# Altium footprint library con-omron.PCBLIB: 109 footprints (part 3 of 8)
Each footprint in its own frame and in the unit in brackets; x right, y up, seen from the top. Pads: shape width x height; smd on the part's side, far side on the other; paste and mask are expansions set on the pad; w line width, h text height; cw(c..) or ccw(c..) is an arc to the next point about the centre after c.
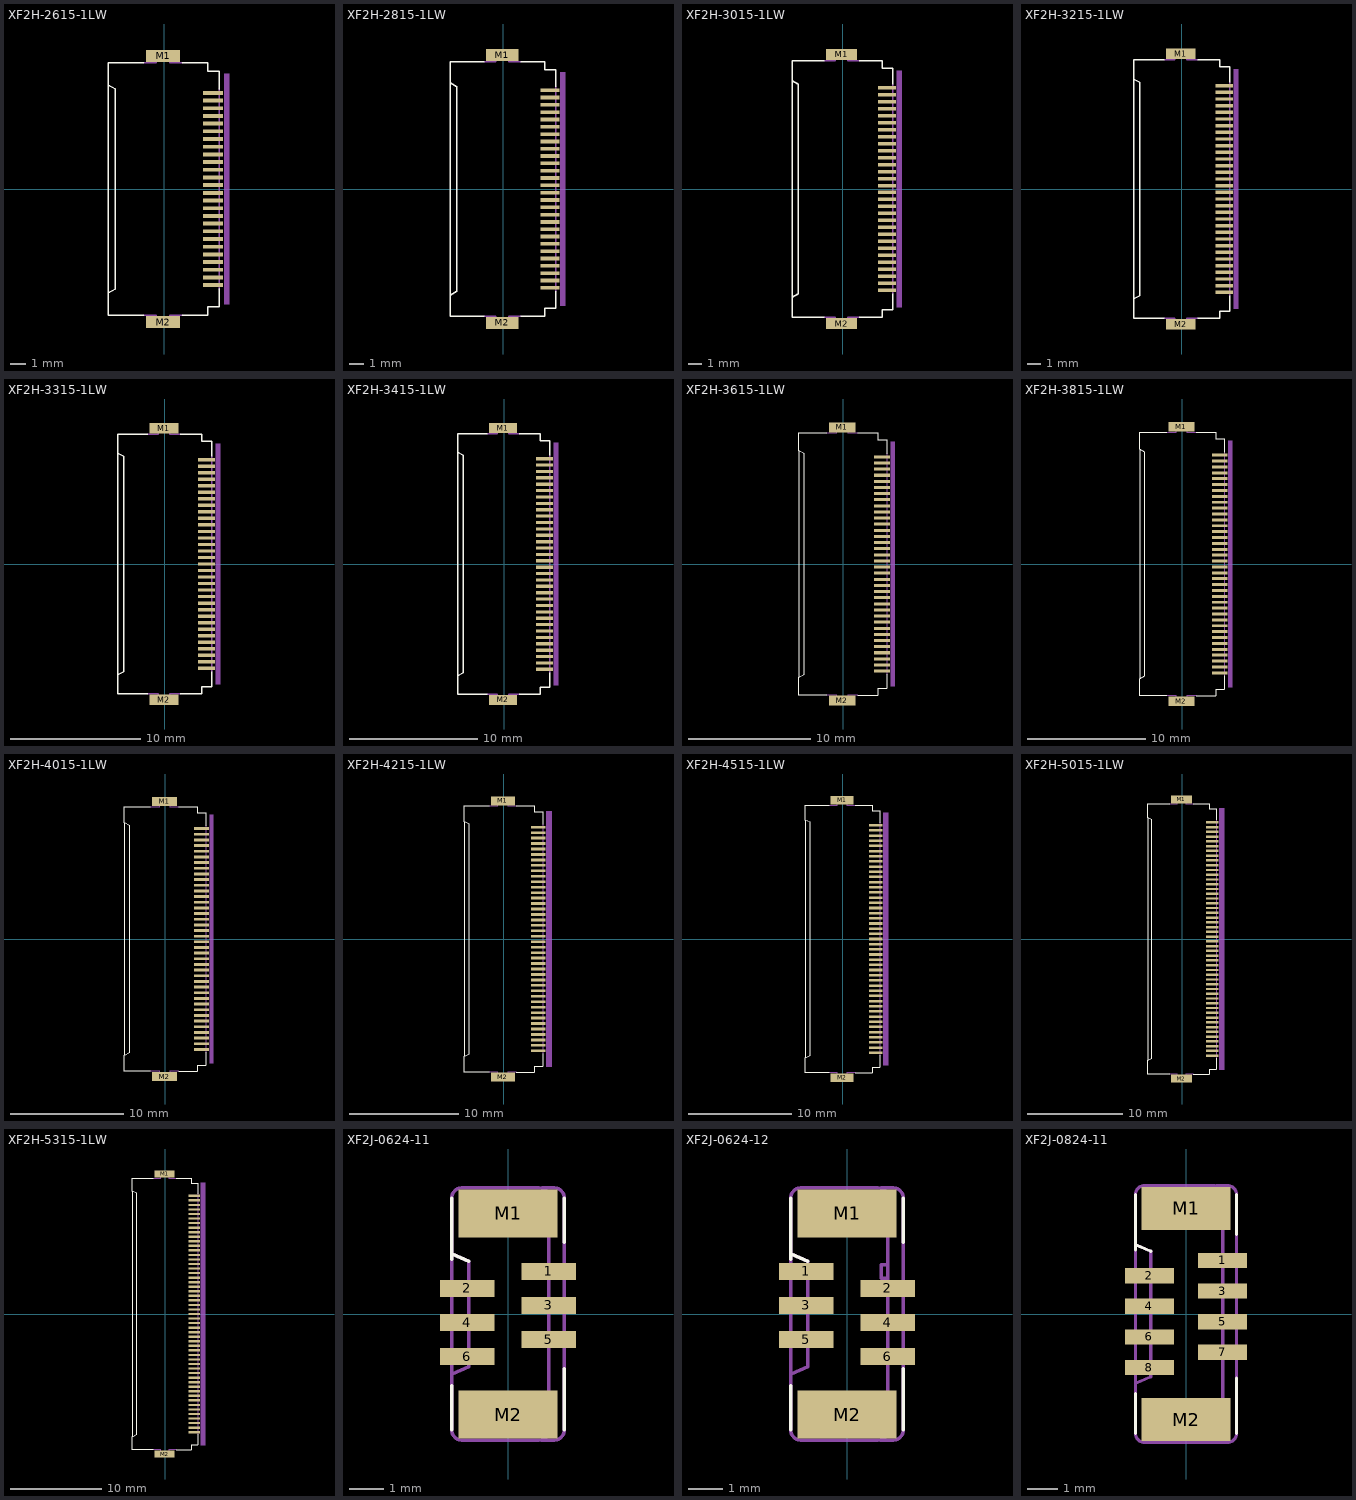
[diagram p2: the footprints below, top view; thin cyan lines are the x and y axes]

## XF2H-2615-1LW [mil]
pads (28):
  rect 51.18x9.84 smd: 1(125,246.06) 2(125,226.38) 3(125,206.69) 4(125,187.01) 5(125,167.32) 6(125,147.64) 7(125,127.95) 8(125,108.27) 9(125,88.58) 10(125,68.9) 11(125,49.21) 12(125,29.53) 13(125,9.84) 14(125,-9.84) 15(125,-29.53) 16(125,-49.21) 17(125,-68.9) 18(125,-88.58) 19(125,-108.27) 20(125,-127.95) 21(125,-147.64) 22(125,-167.32) 23(125,-187.01) 24(125,-206.69) 25(125,-226.38) 26(125,-246.06)
  rect 86.61x31.5 smd: M1(-2.95,340.55) M2(-2.95,-340.55)
Top Overlay:
  lines w4: -52.17,-322.83 -142.72,-322.83 -142.72,-265.75 ; -52.17,322.83 -142.72,322.83 -142.72,265.75 ; 46.26,-322.83 111.22,-322.83 111.22,-301.18 140.75,-301.18 140.75,-255.91 ; 46.26,322.83 111.22,322.83 111.22,301.18 140.75,301.18 140.75,255.91 ; -142.72,-265.75 -125,-255.91 -125,255.91 -142.72,265.75 ; -142.72,-265.75 -142.72,265.75
Top Solder:
  rectangle: 97.44,239.17 152.56,252.95
  rectangle: 97.44,219.49 152.56,233.27
  rectangle: 97.44,199.8 152.56,213.58
  rectangle: 97.44,180.12 152.56,193.9
  rectangle: 97.44,160.43 152.56,174.21
  rectangle: 97.44,140.75 152.56,154.53
  rectangle: 97.44,121.06 152.56,134.84
  rectangle: 97.44,101.38 152.56,115.16
  rectangle: 97.44,81.69 152.56,95.47
  rectangle: 97.44,62.01 152.56,75.79
  rectangle: 97.44,42.32 152.56,56.1
  rectangle: 97.44,22.64 152.56,36.42
  rectangle: 97.44,2.95 152.56,16.73
  rectangle: 97.44,-16.73 152.56,-2.95
  rectangle: 97.44,-36.42 152.56,-22.64
  rectangle: 97.44,-56.1 152.56,-42.32
  rectangle: 97.44,-75.79 152.56,-62.01
  rectangle: 97.44,-95.47 152.56,-81.69
  rectangle: 97.44,-115.16 152.56,-101.38
  rectangle: 97.44,-134.84 152.56,-121.06
  rectangle: 97.44,-154.53 152.56,-140.75
  rectangle: 97.44,-174.21 152.56,-160.43
  rectangle: 97.44,-193.9 152.56,-180.12
  rectangle: 97.44,-213.58 152.56,-199.8
  rectangle: 97.44,-233.27 152.56,-219.49
  rectangle: 97.44,-252.95 152.56,-239.17
Mechanical 16:
  lines w4: -52.17,-322.83 -20.67,-322.83 -20.67,-334.65 14.76,-334.65 14.76,-322.83 46.26,-322.83 ; -52.17,322.83 -20.67,322.83 -20.67,334.65 14.76,334.65 14.76,322.83 46.26,322.83 ; 140.75,-255.91 140.75,255.91
Via Holes:
  rectangle: 8.86,-255.91 97.44,255.91
Mechanical 27:
  rectangle: 152.56,-295.28 167.32,295.28

## XF2H-2815-1LW [mil]
pads (30):
  rect 51.18x9.84 smd: 1(125,265.75) 2(125,246.06) 3(125,226.38) 4(125,206.69) 5(125,187.01) 6(125,167.32) 7(125,147.64) 8(125,127.95) 9(125,108.27) 10(125,88.58) 11(125,68.9) 12(125,49.21) 13(125,29.53) 14(125,9.84) 15(125,-9.84) 16(125,-29.53) 17(125,-49.21) 18(125,-68.9) 19(125,-88.58) 20(125,-108.27) 21(125,-127.95) 22(125,-147.64) 23(125,-167.32) 24(125,-187.01) 25(125,-206.69) 26(125,-226.38) 27(125,-246.06) 28(125,-265.75)
  rect 86.61x31.5 smd: M1(-2.95,360.24) M2(-2.95,-360.24)
Top Overlay:
  lines w4: -52.17,-342.52 -142.72,-342.52 -142.72,-285.43 ; -52.17,342.52 -142.72,342.52 -142.72,285.43 ; 46.26,-342.52 111.22,-342.52 111.22,-320.87 140.75,-320.87 140.75,-275.59 ; 46.26,342.52 111.22,342.52 111.22,320.87 140.75,320.87 140.75,275.59 ; -142.72,-285.43 -125,-275.59 -125,275.59 -142.72,285.43 ; -142.72,-285.43 -142.72,285.43
Top Solder:
  rectangle: 97.44,258.86 152.56,272.64
  rectangle: 97.44,239.17 152.56,252.95
  rectangle: 97.44,219.49 152.56,233.27
  rectangle: 97.44,199.8 152.56,213.58
  rectangle: 97.44,180.12 152.56,193.9
  rectangle: 97.44,160.43 152.56,174.21
  rectangle: 97.44,140.75 152.56,154.53
  rectangle: 97.44,121.06 152.56,134.84
  rectangle: 97.44,101.38 152.56,115.16
  rectangle: 97.44,81.69 152.56,95.47
  rectangle: 97.44,62.01 152.56,75.79
  rectangle: 97.44,42.32 152.56,56.1
  rectangle: 97.44,22.64 152.56,36.42
  rectangle: 97.44,2.95 152.56,16.73
  rectangle: 97.44,-16.73 152.56,-2.95
  rectangle: 97.44,-36.42 152.56,-22.64
  rectangle: 97.44,-56.1 152.56,-42.32
  rectangle: 97.44,-75.79 152.56,-62.01
  rectangle: 97.44,-95.47 152.56,-81.69
  rectangle: 97.44,-115.16 152.56,-101.38
  rectangle: 97.44,-134.84 152.56,-121.06
  rectangle: 97.44,-154.53 152.56,-140.75
  rectangle: 97.44,-174.21 152.56,-160.43
  rectangle: 97.44,-193.9 152.56,-180.12
  rectangle: 97.44,-213.58 152.56,-199.8
  rectangle: 97.44,-233.27 152.56,-219.49
  rectangle: 97.44,-252.95 152.56,-239.17
  rectangle: 97.44,-272.64 152.56,-258.86
Mechanical 16:
  lines w4: -52.17,-342.52 -20.67,-342.52 -20.67,-354.33 14.76,-354.33 14.76,-342.52 46.26,-342.52 ; -52.17,342.52 -20.67,342.52 -20.67,354.33 14.76,354.33 14.76,342.52 46.26,342.52 ; 140.75,-275.59 140.75,275.59
Via Holes:
  rectangle: 8.86,-275.59 97.44,275.59
Mechanical 27:
  rectangle: 152.56,-314.96 167.32,314.96

## XF2H-3015-1LW [mil]
pads (32):
  rect 51.18x9.84 smd: 1(125,285.43) 2(125,265.75) 3(125,246.06) 4(125,226.38) 5(125,206.69) 6(125,187.01) 7(125,167.32) 8(125,147.64) 9(125,127.95) 10(125,108.27) 11(125,88.58) 12(125,68.9) 13(125,49.21) 14(125,29.53) 15(125,9.84) 16(125,-9.84) 17(125,-29.53) 18(125,-49.21) 19(125,-68.9) 20(125,-88.58) 21(125,-108.27) 22(125,-127.95) 23(125,-147.64) 24(125,-167.32) 25(125,-187.01) 26(125,-206.69) 27(125,-226.38) 28(125,-246.06) 29(125,-265.75) 30(125,-285.43)
  rect 86.61x31.5 smd: M1(-2.95,379.92) M2(-2.95,-379.92)
Top Overlay:
  lines w4: -52.17,-362.2 -142.72,-362.2 -142.72,-305.12 ; -52.17,362.2 -142.72,362.2 -142.72,305.12 ; 46.26,-362.2 111.22,-362.2 111.22,-340.55 140.75,-340.55 140.75,-295.28 ; 46.26,362.2 111.22,362.2 111.22,340.55 140.75,340.55 140.75,295.28 ; -142.72,-305.12 -125,-295.28 -125,295.28 -142.72,305.12 ; -142.72,-305.12 -142.72,305.12
Top Solder:
  rectangle: 97.44,278.54 152.56,292.32
  rectangle: 97.44,258.86 152.56,272.64
  rectangle: 97.44,239.17 152.56,252.95
  rectangle: 97.44,219.49 152.56,233.27
  rectangle: 97.44,199.8 152.56,213.58
  rectangle: 97.44,180.12 152.56,193.9
  rectangle: 97.44,160.43 152.56,174.21
  rectangle: 97.44,140.75 152.56,154.53
  rectangle: 97.44,121.06 152.56,134.84
  rectangle: 97.44,101.38 152.56,115.16
  rectangle: 97.44,81.69 152.56,95.47
  rectangle: 97.44,62.01 152.56,75.79
  rectangle: 97.44,42.32 152.56,56.1
  rectangle: 97.44,22.64 152.56,36.42
  rectangle: 97.44,2.95 152.56,16.73
  rectangle: 97.44,-16.73 152.56,-2.95
  rectangle: 97.44,-36.42 152.56,-22.64
  rectangle: 97.44,-56.1 152.56,-42.32
  rectangle: 97.44,-75.79 152.56,-62.01
  rectangle: 97.44,-95.47 152.56,-81.69
  rectangle: 97.44,-115.16 152.56,-101.38
  rectangle: 97.44,-134.84 152.56,-121.06
  rectangle: 97.44,-154.53 152.56,-140.75
  rectangle: 97.44,-174.21 152.56,-160.43
  rectangle: 97.44,-193.9 152.56,-180.12
  rectangle: 97.44,-213.58 152.56,-199.8
  rectangle: 97.44,-233.27 152.56,-219.49
  rectangle: 97.44,-252.95 152.56,-239.17
  rectangle: 97.44,-272.64 152.56,-258.86
  rectangle: 97.44,-292.32 152.56,-278.54
Mechanical 16:
  lines w4: -52.17,-362.2 -20.67,-362.2 -20.67,-374.02 14.76,-374.02 14.76,-362.2 46.26,-362.2 ; -52.17,362.2 -20.67,362.2 -20.67,374.02 14.76,374.02 14.76,362.2 46.26,362.2 ; 140.75,-295.28 140.75,295.28
Via Holes:
  rectangle: 8.86,-295.28 97.44,295.28
Mechanical 27:
  rectangle: 152.56,-334.65 167.32,334.65

## XF2H-3215-1LW [mil]
pads (34):
  rect 51.18x9.84 smd: 1(125,305.12) 2(125,285.43) 3(125,265.75) 4(125,246.06) 5(125,226.38) 6(125,206.69) 7(125,187.01) 8(125,167.32) 9(125,147.64) 10(125,127.95) 11(125,108.27) 12(125,88.58) 13(125,68.9) 14(125,49.21) 15(125,29.53) 16(125,9.84) 17(125,-9.84) 18(125,-29.53) 19(125,-49.21) 20(125,-68.9) 21(125,-88.58) 22(125,-108.27) 23(125,-127.95) 24(125,-147.64) 25(125,-167.32) 26(125,-187.01) 27(125,-206.69) 28(125,-226.38) 29(125,-246.06) 30(125,-265.75) 31(125,-285.43) 32(125,-305.12)
  rect 86.61x31.5 smd: M1(-2.95,399.61) M2(-2.95,-399.61)
Top Overlay:
  lines w4: -52.17,-381.89 -142.72,-381.89 -142.72,-324.8 ; -52.17,381.89 -142.72,381.89 -142.72,324.8 ; 46.26,-381.89 111.22,-381.89 111.22,-360.24 140.75,-360.24 140.75,-314.96 ; 46.26,381.89 111.22,381.89 111.22,360.24 140.75,360.24 140.75,314.96 ; -142.72,-324.8 -125,-314.96 -125,314.96 -142.72,324.8 ; -142.72,-324.8 -142.72,324.8
Top Solder:
  rectangle: 97.44,298.23 152.56,312.01
  rectangle: 97.44,278.54 152.56,292.32
  rectangle: 97.44,258.86 152.56,272.64
  rectangle: 97.44,239.17 152.56,252.95
  rectangle: 97.44,219.49 152.56,233.27
  rectangle: 97.44,199.8 152.56,213.58
  rectangle: 97.44,180.12 152.56,193.9
  rectangle: 97.44,160.43 152.56,174.21
  rectangle: 97.44,140.75 152.56,154.53
  rectangle: 97.44,121.06 152.56,134.84
  rectangle: 97.44,101.38 152.56,115.16
  rectangle: 97.44,81.69 152.56,95.47
  rectangle: 97.44,62.01 152.56,75.79
  rectangle: 97.44,42.32 152.56,56.1
  rectangle: 97.44,22.64 152.56,36.42
  rectangle: 97.44,2.95 152.56,16.73
  rectangle: 97.44,-16.73 152.56,-2.95
  rectangle: 97.44,-36.42 152.56,-22.64
  rectangle: 97.44,-56.1 152.56,-42.32
  rectangle: 97.44,-75.79 152.56,-62.01
  rectangle: 97.44,-95.47 152.56,-81.69
  rectangle: 97.44,-115.16 152.56,-101.38
  rectangle: 97.44,-134.84 152.56,-121.06
  rectangle: 97.44,-154.53 152.56,-140.75
  rectangle: 97.44,-174.21 152.56,-160.43
  rectangle: 97.44,-193.9 152.56,-180.12
  rectangle: 97.44,-213.58 152.56,-199.8
  rectangle: 97.44,-233.27 152.56,-219.49
  rectangle: 97.44,-252.95 152.56,-239.17
  rectangle: 97.44,-272.64 152.56,-258.86
  rectangle: 97.44,-292.32 152.56,-278.54
  rectangle: 97.44,-312.01 152.56,-298.23
Mechanical 16:
  lines w4: -52.17,-381.89 -20.67,-381.89 -20.67,-393.7 14.76,-393.7 14.76,-381.89 46.26,-381.89 ; -52.17,381.89 -20.67,381.89 -20.67,393.7 14.76,393.7 14.76,381.89 46.26,381.89 ; 140.75,-314.96 140.75,314.96
Via Holes:
  rectangle: 8.86,-314.96 97.44,314.96
Mechanical 27:
  rectangle: 152.56,-354.33 167.32,354.33

## XF2H-3315-1LW [mm]
pads (35):
  rect 1.3x0.25 smd: 1(3.175,8) 2(3.175,7.5) 3(3.175,7) 4(3.175,6.5) 5(3.175,6) 6(3.175,5.5) 7(3.175,5) 8(3.175,4.5) 9(3.175,4) 10(3.175,3.5) 11(3.175,3) 12(3.175,2.5) 13(3.175,2) 14(3.175,1.5) 15(3.175,1) 16(3.175,0.5) 17(3.175,0) 18(3.175,-0.5) 19(3.175,-1) 20(3.175,-1.5) 21(3.175,-2) 22(3.175,-2.5) 23(3.175,-3) 24(3.175,-3.5) 25(3.175,-4) 26(3.175,-4.5) 27(3.175,-5) 28(3.175,-5.5) 29(3.175,-6) 30(3.175,-6.5) 31(3.175,-7) 32(3.175,-7.5) 33(3.175,-8)
  rect 2.2x0.8 smd: M1(-0.075,10.4) M2(-0.075,-10.4)
Top Overlay:
  lines w0.102: -1.325,-9.95 -3.625,-9.95 -3.625,-8.5 ; -1.325,9.95 -3.625,9.95 -3.625,8.5 ; 1.175,-9.95 2.825,-9.95 2.825,-9.4 3.575,-9.4 3.575,-8.25 ; 1.175,9.95 2.825,9.95 2.825,9.4 3.575,9.4 3.575,8.25 ; -3.625,-8.5 -3.175,-8.25 -3.175,8.25 -3.625,8.5 ; -3.625,-8.5 -3.625,8.5
Top Solder:
  rectangle: 2.475,7.825 3.875,8.175
  rectangle: 2.475,7.325 3.875,7.675
  rectangle: 2.475,6.825 3.875,7.175
  rectangle: 2.475,6.325 3.875,6.675
  rectangle: 2.475,5.825 3.875,6.175
  rectangle: 2.475,5.325 3.875,5.675
  rectangle: 2.475,4.825 3.875,5.175
  rectangle: 2.475,4.325 3.875,4.675
  rectangle: 2.475,3.825 3.875,4.175
  rectangle: 2.475,3.325 3.875,3.675
  rectangle: 2.475,2.825 3.875,3.175
  rectangle: 2.475,2.325 3.875,2.675
  rectangle: 2.475,1.825 3.875,2.175
  rectangle: 2.475,1.325 3.875,1.675
  rectangle: 2.475,0.825 3.875,1.175
  rectangle: 2.475,0.325 3.875,0.675
  rectangle: 2.475,-0.175 3.875,0.175
  rectangle: 2.475,-0.675 3.875,-0.325
  rectangle: 2.475,-1.175 3.875,-0.825
  rectangle: 2.475,-1.675 3.875,-1.325
  rectangle: 2.475,-2.175 3.875,-1.825
  rectangle: 2.475,-2.675 3.875,-2.325
  rectangle: 2.475,-3.175 3.875,-2.825
  rectangle: 2.475,-3.675 3.875,-3.325
  rectangle: 2.475,-4.175 3.875,-3.825
  rectangle: 2.475,-4.675 3.875,-4.325
  rectangle: 2.475,-5.175 3.875,-4.825
  rectangle: 2.475,-5.675 3.875,-5.325
  rectangle: 2.475,-6.175 3.875,-5.825
  rectangle: 2.475,-6.675 3.875,-6.325
  rectangle: 2.475,-7.175 3.875,-6.825
  rectangle: 2.475,-7.675 3.875,-7.325
  rectangle: 2.475,-8.175 3.875,-7.825
Mechanical 16:
  lines w0.102: -1.325,-9.95 -0.525,-9.95 -0.525,-10.25 0.375,-10.25 0.375,-9.95 1.175,-9.95 ; -1.325,9.95 -0.525,9.95 -0.525,10.25 0.375,10.25 0.375,9.95 1.175,9.95 ; 3.575,-8.25 3.575,8.25
Via Holes:
  rectangle: 0.225,-8.25 2.475,8.25
Mechanical 27:
  rectangle: 3.875,-9.25 4.25,9.25

## XF2H-3415-1LW [mil]
pads (36):
  rect 51.18x9.84 smd: 1(125,324.8) 2(125,305.12) 3(125,285.43) 4(125,265.75) 5(125,246.06) 6(125,226.38) 7(125,206.69) 8(125,187.01) 9(125,167.32) 10(125,147.64) 11(125,127.95) 12(125,108.27) 13(125,88.58) 14(125,68.9) 15(125,49.21) 16(125,29.53) 17(125,9.84) 18(125,-9.84) 19(125,-29.53) 20(125,-49.21) 21(125,-68.9) 22(125,-88.58) 23(125,-108.27) 24(125,-127.95) 25(125,-147.64) 26(125,-167.32) 27(125,-187.01) 28(125,-206.69) 29(125,-226.38) 30(125,-246.06) 31(125,-265.75) 32(125,-285.43) 33(125,-305.12) 34(125,-324.8)
  rect 86.61x31.5 smd: M1(-2.95,419.29) M2(-2.95,-419.29)
Top Overlay:
  lines w4: -52.17,-401.57 -142.72,-401.57 -142.72,-344.49 ; -52.17,401.57 -142.72,401.57 -142.72,344.49 ; 46.26,-401.57 111.22,-401.57 111.22,-379.92 140.75,-379.92 140.75,-334.65 ; 46.26,401.57 111.22,401.57 111.22,379.92 140.75,379.92 140.75,334.65 ; -142.72,-344.49 -125,-334.65 -125,334.65 -142.72,344.49 ; -142.72,-344.49 -142.72,344.49
Top Solder:
  rectangle: 97.44,317.91 152.56,331.69
  rectangle: 97.44,298.23 152.56,312.01
  rectangle: 97.44,278.54 152.56,292.32
  rectangle: 97.44,258.86 152.56,272.64
  rectangle: 97.44,239.17 152.56,252.95
  rectangle: 97.44,219.49 152.56,233.27
  rectangle: 97.44,199.8 152.56,213.58
  rectangle: 97.44,180.12 152.56,193.9
  rectangle: 97.44,160.43 152.56,174.21
  rectangle: 97.44,140.75 152.56,154.53
  rectangle: 97.44,121.06 152.56,134.84
  rectangle: 97.44,101.38 152.56,115.16
  rectangle: 97.44,81.69 152.56,95.47
  rectangle: 97.44,62.01 152.56,75.79
  rectangle: 97.44,42.32 152.56,56.1
  rectangle: 97.44,22.64 152.56,36.42
  rectangle: 97.44,2.95 152.56,16.73
  rectangle: 97.44,-16.73 152.56,-2.95
  rectangle: 97.44,-36.42 152.56,-22.64
  rectangle: 97.44,-56.1 152.56,-42.32
  rectangle: 97.44,-75.79 152.56,-62.01
  rectangle: 97.44,-95.47 152.56,-81.69
  rectangle: 97.44,-115.16 152.56,-101.38
  rectangle: 97.44,-134.84 152.56,-121.06
  rectangle: 97.44,-154.53 152.56,-140.75
  rectangle: 97.44,-174.21 152.56,-160.43
  rectangle: 97.44,-193.9 152.56,-180.12
  rectangle: 97.44,-213.58 152.56,-199.8
  rectangle: 97.44,-233.27 152.56,-219.49
  rectangle: 97.44,-252.95 152.56,-239.17
  rectangle: 97.44,-272.64 152.56,-258.86
  rectangle: 97.44,-292.32 152.56,-278.54
  rectangle: 97.44,-312.01 152.56,-298.23
  rectangle: 97.44,-331.69 152.56,-317.91
Mechanical 16:
  lines w4: -52.17,-401.57 -20.67,-401.57 -20.67,-413.39 14.76,-413.39 14.76,-401.57 46.26,-401.57 ; -52.17,401.57 -20.67,401.57 -20.67,413.39 14.76,413.39 14.76,401.57 46.26,401.57 ; 140.75,-334.65 140.75,334.65
Via Holes:
  rectangle: 8.86,-334.65 97.44,334.65
Mechanical 27:
  rectangle: 152.56,-374.02 167.32,374.02

## XF2H-3615-1LW [mil]
pads (38):
  rect 51.18x9.84 smd: 1(125,344.49) 2(125,324.8) 3(125,305.12) 4(125,285.43) 5(125,265.75) 6(125,246.06) 7(125,226.38) 8(125,206.69) 9(125,187.01) 10(125,167.32) 11(125,147.64) 12(125,127.95) 13(125,108.27) 14(125,88.58) 15(125,68.9) 16(125,49.21) 17(125,29.53) 18(125,9.84) 19(125,-9.84) 20(125,-29.53) 21(125,-49.21) 22(125,-68.9) 23(125,-88.58) 24(125,-108.27) 25(125,-127.95) 26(125,-147.64) 27(125,-167.32) 28(125,-187.01) 29(125,-206.69) 30(125,-226.38) 31(125,-246.06) 32(125,-265.75) 33(125,-285.43) 34(125,-305.12) 35(125,-324.8) 36(125,-344.49)
  rect 86.61x31.5 smd: M1(-2.95,438.98) M2(-2.95,-438.98)
Top Overlay:
  lines w4: -52.17,-421.26 -142.72,-421.26 -142.72,-364.17 ; -52.17,421.26 -142.72,421.26 -142.72,364.17 ; 46.26,-421.26 111.22,-421.26 111.22,-399.61 140.75,-399.61 140.75,-354.33 ; 46.26,421.26 111.22,421.26 111.22,399.61 140.75,399.61 140.75,354.33 ; -142.72,-364.17 -125,-354.33 -125,354.33 -142.72,364.17 ; -142.72,-364.17 -142.72,364.17
Top Solder:
  rectangle: 97.44,337.6 152.56,351.38
  rectangle: 97.44,317.91 152.56,331.69
  rectangle: 97.44,298.23 152.56,312.01
  rectangle: 97.44,278.54 152.56,292.32
  rectangle: 97.44,258.86 152.56,272.64
  rectangle: 97.44,239.17 152.56,252.95
  rectangle: 97.44,219.49 152.56,233.27
  rectangle: 97.44,199.8 152.56,213.58
  rectangle: 97.44,180.12 152.56,193.9
  rectangle: 97.44,160.43 152.56,174.21
  rectangle: 97.44,140.75 152.56,154.53
  rectangle: 97.44,121.06 152.56,134.84
  rectangle: 97.44,101.38 152.56,115.16
  rectangle: 97.44,81.69 152.56,95.47
  rectangle: 97.44,62.01 152.56,75.79
  rectangle: 97.44,42.32 152.56,56.1
  rectangle: 97.44,22.64 152.56,36.42
  rectangle: 97.44,2.95 152.56,16.73
  rectangle: 97.44,-16.73 152.56,-2.95
  rectangle: 97.44,-36.42 152.56,-22.64
  rectangle: 97.44,-56.1 152.56,-42.32
  rectangle: 97.44,-75.79 152.56,-62.01
  rectangle: 97.44,-95.47 152.56,-81.69
  rectangle: 97.44,-115.16 152.56,-101.38
  rectangle: 97.44,-134.84 152.56,-121.06
  rectangle: 97.44,-154.53 152.56,-140.75
  rectangle: 97.44,-174.21 152.56,-160.43
  rectangle: 97.44,-193.9 152.56,-180.12
  rectangle: 97.44,-213.58 152.56,-199.8
  rectangle: 97.44,-233.27 152.56,-219.49
  rectangle: 97.44,-252.95 152.56,-239.17
  rectangle: 97.44,-272.64 152.56,-258.86
  rectangle: 97.44,-292.32 152.56,-278.54
  rectangle: 97.44,-312.01 152.56,-298.23
  rectangle: 97.44,-331.69 152.56,-317.91
  rectangle: 97.44,-351.38 152.56,-337.6
Mechanical 16:
  lines w4: -52.17,-421.26 -20.67,-421.26 -20.67,-433.07 14.76,-433.07 14.76,-421.26 46.26,-421.26 ; -52.17,421.26 -20.67,421.26 -20.67,433.07 14.76,433.07 14.76,421.26 46.26,421.26 ; 140.75,-354.33 140.75,354.33
Via Holes:
  rectangle: 8.86,-354.33 97.44,354.33
Mechanical 27:
  rectangle: 152.56,-393.7 167.32,393.7

## XF2H-3815-1LW [mil]
pads (40):
  rect 51.18x9.84 smd: 1(125,364.17) 2(125,344.49) 3(125,324.8) 4(125,305.12) 5(125,285.43) 6(125,265.75) 7(125,246.06) 8(125,226.38) 9(125,206.69) 10(125,187.01) 11(125,167.32) 12(125,147.64) 13(125,127.95) 14(125,108.27) 15(125,88.58) 16(125,68.9) 17(125,49.21) 18(125,29.53) 19(125,9.84) 20(125,-9.84) 21(125,-29.53) 22(125,-49.21) 23(125,-68.9) 24(125,-88.58) 25(125,-108.27) 26(125,-127.95) 27(125,-147.64) 28(125,-167.32) 29(125,-187.01) 30(125,-206.69) 31(125,-226.38) 32(125,-246.06) 33(125,-265.75) 34(125,-285.43) 35(125,-305.12) 36(125,-324.8) 37(125,-344.49) 38(125,-364.17)
  rect 86.61x31.5 smd: M1(-2.95,458.66) M2(-2.95,-458.66)
Top Overlay:
  lines w4: -52.17,-440.94 -142.72,-440.94 -142.72,-383.86 ; -52.17,440.94 -142.72,440.94 -142.72,383.86 ; 46.26,-440.94 111.22,-440.94 111.22,-419.29 140.75,-419.29 140.75,-374.02 ; 46.26,440.94 111.22,440.94 111.22,419.29 140.75,419.29 140.75,374.02 ; -142.72,-383.86 -125,-374.02 -125,374.02 -142.72,383.86 ; -142.72,-383.86 -142.72,383.86
Top Solder:
  rectangle: 97.44,357.28 152.56,371.06
  rectangle: 97.44,337.6 152.56,351.38
  rectangle: 97.44,317.91 152.56,331.69
  rectangle: 97.44,298.23 152.56,312.01
  rectangle: 97.44,278.54 152.56,292.32
  rectangle: 97.44,258.86 152.56,272.64
  rectangle: 97.44,239.17 152.56,252.95
  rectangle: 97.44,219.49 152.56,233.27
  rectangle: 97.44,199.8 152.56,213.58
  rectangle: 97.44,180.12 152.56,193.9
  rectangle: 97.44,160.43 152.56,174.21
  rectangle: 97.44,140.75 152.56,154.53
  rectangle: 97.44,121.06 152.56,134.84
  rectangle: 97.44,101.38 152.56,115.16
  rectangle: 97.44,81.69 152.56,95.47
  rectangle: 97.44,62.01 152.56,75.79
  rectangle: 97.44,42.32 152.56,56.1
  rectangle: 97.44,22.64 152.56,36.42
  rectangle: 97.44,2.95 152.56,16.73
  rectangle: 97.44,-16.73 152.56,-2.95
  rectangle: 97.44,-36.42 152.56,-22.64
  rectangle: 97.44,-56.1 152.56,-42.32
  rectangle: 97.44,-75.79 152.56,-62.01
  rectangle: 97.44,-95.47 152.56,-81.69
  rectangle: 97.44,-115.16 152.56,-101.38
  rectangle: 97.44,-134.84 152.56,-121.06
  rectangle: 97.44,-154.53 152.56,-140.75
  rectangle: 97.44,-174.21 152.56,-160.43
  rectangle: 97.44,-193.9 152.56,-180.12
  rectangle: 97.44,-213.58 152.56,-199.8
  rectangle: 97.44,-233.27 152.56,-219.49
  rectangle: 97.44,-252.95 152.56,-239.17
  rectangle: 97.44,-272.64 152.56,-258.86
  rectangle: 97.44,-292.32 152.56,-278.54
  rectangle: 97.44,-312.01 152.56,-298.23
  rectangle: 97.44,-331.69 152.56,-317.91
  rectangle: 97.44,-351.38 152.56,-337.6
  rectangle: 97.44,-371.06 152.56,-357.28
Mechanical 16:
  lines w4: -52.17,-440.94 -20.67,-440.94 -20.67,-452.76 14.76,-452.76 14.76,-440.94 46.26,-440.94 ; -52.17,440.94 -20.67,440.94 -20.67,452.76 14.76,452.76 14.76,440.94 46.26,440.94 ; 140.75,-374.02 140.75,374.02
Via Holes:
  rectangle: 8.86,-374.02 97.44,374.02
Mechanical 27:
  rectangle: 152.56,-413.39 167.32,413.39

## XF2H-4015-1LW [mil]
pads (42):
  rect 51.18x9.84 smd: 1(125,383.86) 2(125,364.17) 3(125,344.49) 4(125,324.8) 5(125,305.12) 6(125,285.43) 7(125,265.75) 8(125,246.06) 9(125,226.38) 10(125,206.69) 11(125,187.01) 12(125,167.32) 13(125,147.64) 14(125,127.95) 15(125,108.27) 16(125,88.58) 17(125,68.9) 18(125,49.21) 19(125,29.53) 20(125,9.84) 21(125,-9.84) 22(125,-29.53) 23(125,-49.21) 24(125,-68.9) 25(125,-88.58) 26(125,-108.27) 27(125,-127.95) 28(125,-147.64) 29(125,-167.32) 30(125,-187.01) 31(125,-206.69) 32(125,-226.38) 33(125,-246.06) 34(125,-265.75) 35(125,-285.43) 36(125,-305.12) 37(125,-324.8) 38(125,-344.49) 39(125,-364.17) 40(125,-383.86)
  rect 86.61x31.5 smd: M1(-2.95,478.35) M2(-2.95,-478.35)
Top Overlay:
  lines w4: -52.17,-460.63 -142.72,-460.63 -142.72,-403.54 ; -52.17,460.63 -142.72,460.63 -142.72,403.54 ; 46.26,-460.63 111.22,-460.63 111.22,-438.98 140.75,-438.98 140.75,-393.7 ; 46.26,460.63 111.22,460.63 111.22,438.98 140.75,438.98 140.75,393.7 ; -142.72,-403.54 -125,-393.7 -125,393.7 -142.72,403.54 ; -142.72,-403.54 -142.72,403.54
Top Solder:
  rectangle: 97.44,376.97 152.56,390.75
  rectangle: 97.44,357.28 152.56,371.06
  rectangle: 97.44,337.6 152.56,351.38
  rectangle: 97.44,317.91 152.56,331.69
  rectangle: 97.44,298.23 152.56,312.01
  rectangle: 97.44,278.54 152.56,292.32
  rectangle: 97.44,258.86 152.56,272.64
  rectangle: 97.44,239.17 152.56,252.95
  rectangle: 97.44,219.49 152.56,233.27
  rectangle: 97.44,199.8 152.56,213.58
  rectangle: 97.44,180.12 152.56,193.9
  rectangle: 97.44,160.43 152.56,174.21
  rectangle: 97.44,140.75 152.56,154.53
  rectangle: 97.44,121.06 152.56,134.84
  rectangle: 97.44,101.38 152.56,115.16
  rectangle: 97.44,81.69 152.56,95.47
  rectangle: 97.44,62.01 152.56,75.79
  rectangle: 97.44,42.32 152.56,56.1
  rectangle: 97.44,22.64 152.56,36.42
  rectangle: 97.44,2.95 152.56,16.73
  rectangle: 97.44,-16.73 152.56,-2.95
  rectangle: 97.44,-36.42 152.56,-22.64
  rectangle: 97.44,-56.1 152.56,-42.32
  rectangle: 97.44,-75.79 152.56,-62.01
  rectangle: 97.44,-95.47 152.56,-81.69
  rectangle: 97.44,-115.16 152.56,-101.38
  rectangle: 97.44,-134.84 152.56,-121.06
  rectangle: 97.44,-154.53 152.56,-140.75
  rectangle: 97.44,-174.21 152.56,-160.43
  rectangle: 97.44,-193.9 152.56,-180.12
  rectangle: 97.44,-213.58 152.56,-199.8
  rectangle: 97.44,-233.27 152.56,-219.49
  rectangle: 97.44,-252.95 152.56,-239.17
  rectangle: 97.44,-272.64 152.56,-258.86
  rectangle: 97.44,-292.32 152.56,-278.54
  rectangle: 97.44,-312.01 152.56,-298.23
  rectangle: 97.44,-331.69 152.56,-317.91
  rectangle: 97.44,-351.38 152.56,-337.6
  rectangle: 97.44,-371.06 152.56,-357.28
  rectangle: 97.44,-390.75 152.56,-376.97
Mechanical 16:
  lines w4: -52.17,-460.63 -20.67,-460.63 -20.67,-472.44 14.76,-472.44 14.76,-460.63 46.26,-460.63 ; -52.17,460.63 -20.67,460.63 -20.67,472.44 14.76,472.44 14.76,460.63 46.26,460.63 ; 140.75,-393.7 140.75,393.7
Via Holes:
  rectangle: 8.86,-393.7 97.44,393.7
Mechanical 27:
  rectangle: 152.56,-433.07 167.32,433.07

## XF2H-4215-1LW [mil]
pads (44):
  rect 51.18x9.84 smd: 1(125,403.54) 2(125,383.86) 3(125,364.17) 4(125,344.49) 5(125,324.8) 6(125,305.12) 7(125,285.43) 8(125,265.75) 9(125,246.06) 10(125,226.38) 11(125,206.69) 12(125,187.01) 13(125,167.32) 14(125,147.64) 15(125,127.95) 16(125,108.27) 17(125,88.58) 18(125,68.9) 19(125,49.21) 20(125,29.53) 21(125,9.84) 22(125,-9.84) 23(125,-29.53) 24(125,-49.21) 25(125,-68.9) 26(125,-88.58) 27(125,-108.27) 28(125,-127.95) 29(125,-147.64) 30(125,-167.32) 31(125,-187.01) 32(125,-206.69) 33(125,-226.38) 34(125,-246.06) 35(125,-265.75) 36(125,-285.43) 37(125,-305.12) 38(125,-324.8) 39(125,-344.49) 40(125,-364.17) 41(125,-383.86) 42(125,-403.54)
  rect 86.61x31.5 smd: M1(-2.95,498.03) M2(-2.95,-498.03)
Top Overlay:
  lines w4: -52.17,-480.32 -142.72,-480.32 -142.72,-423.23 ; -52.17,480.32 -142.72,480.32 -142.72,423.23 ; 46.26,-480.32 111.22,-480.32 111.22,-458.66 140.75,-458.66 140.75,-413.39 ; 46.26,480.32 111.22,480.32 111.22,458.66 140.75,458.66 140.75,413.39 ; -142.72,-423.23 -125,-413.39 -125,414.37 -142.72,423.23 ; -142.72,-423.23 -142.72,423.23
Top Solder:
  rectangle: 97.44,396.65 152.56,410.43
  rectangle: 97.44,376.97 152.56,390.75
  rectangle: 97.44,357.28 152.56,371.06
  rectangle: 97.44,337.6 152.56,351.38
  rectangle: 97.44,317.91 152.56,331.69
  rectangle: 97.44,298.23 152.56,312.01
  rectangle: 97.44,278.54 152.56,292.32
  rectangle: 97.44,258.86 152.56,272.64
  rectangle: 97.44,239.17 152.56,252.95
  rectangle: 97.44,219.49 152.56,233.27
  rectangle: 97.44,199.8 152.56,213.58
  rectangle: 97.44,180.12 152.56,193.9
  rectangle: 97.44,160.43 152.56,174.21
  rectangle: 97.44,140.75 152.56,154.53
  rectangle: 97.44,121.06 152.56,134.84
  rectangle: 97.44,101.38 152.56,115.16
  rectangle: 97.44,81.69 152.56,95.47
  rectangle: 97.44,62.01 152.56,75.79
  rectangle: 97.44,42.32 152.56,56.1
  rectangle: 97.44,22.64 152.56,36.42
  rectangle: 97.44,2.95 152.56,16.73
  rectangle: 97.44,-16.73 152.56,-2.95
  rectangle: 97.44,-36.42 152.56,-22.64
  rectangle: 97.44,-56.1 152.56,-42.32
  rectangle: 97.44,-75.79 152.56,-62.01
  rectangle: 97.44,-95.47 152.56,-81.69
  rectangle: 97.44,-115.16 152.56,-101.38
  rectangle: 97.44,-134.84 152.56,-121.06
  rectangle: 97.44,-154.53 152.56,-140.75
  rectangle: 97.44,-174.21 152.56,-160.43
  rectangle: 97.44,-193.9 152.56,-180.12
  rectangle: 97.44,-213.58 152.56,-199.8
  rectangle: 97.44,-233.27 152.56,-219.49
  rectangle: 97.44,-252.95 152.56,-239.17
  rectangle: 97.44,-272.64 152.56,-258.86
  rectangle: 97.44,-292.32 152.56,-278.54
  rectangle: 97.44,-312.01 152.56,-298.23
  rectangle: 97.44,-331.69 152.56,-317.91
  rectangle: 97.44,-351.38 152.56,-337.6
  rectangle: 97.44,-371.06 152.56,-357.28
  rectangle: 97.44,-390.75 152.56,-376.97
  rectangle: 97.44,-410.43 152.56,-396.65
Mechanical 16:
  lines w4: -52.17,-480.32 -20.67,-480.32 -20.67,-492.13 14.76,-492.13 14.76,-480.32 46.26,-480.32 ; -52.17,480.32 -20.67,480.32 -20.67,492.13 14.76,492.13 14.76,480.32 46.26,480.32 ; 140.75,-413.39 140.75,413.39
Via Holes:
  rectangle: 8.86,-413.39 97.44,413.39
Mechanical 27:
  rectangle: 152.56,-462.6 174.21,462.6

## XF2H-4515-1LW [mm]
pads (47):
  rect 1.3x0.25 smd: 1(3.175,11) 2(3.175,10.5) 3(3.175,10) 4(3.175,9.5) 5(3.175,9) 6(3.175,8.5) 7(3.175,8) 8(3.175,7.5) 9(3.175,7) 10(3.175,6.5) 11(3.175,6) 12(3.175,5.5) 13(3.175,5) 14(3.175,4.5) 15(3.175,4) 16(3.175,3.5) 17(3.175,3) 18(3.175,2.5) 19(3.175,2) 20(3.175,1.5) 21(3.175,1) 22(3.175,0.5) 23(3.175,0) 24(3.175,-0.5) 25(3.175,-1) 26(3.175,-1.5) 27(3.175,-2) 28(3.175,-2.5) 29(3.175,-3) 30(3.175,-3.5) 31(3.175,-4) 32(3.175,-4.5) 33(3.175,-5) 34(3.175,-5.5) 35(3.175,-6) 36(3.175,-6.5) 37(3.175,-7) 38(3.175,-7.5) 39(3.175,-8) 40(3.175,-8.5) 41(3.175,-9) 42(3.175,-9.5) 43(3.175,-10) 44(3.175,-10.5) 45(3.175,-11)
  rect 2.2x0.8 smd: M1(-0.075,13.4) M2(-0.075,-13.4)
Top Overlay:
  lines w0.102: -1.325,-12.95 -3.625,-12.95 -3.625,-11.5 ; -1.325,12.95 -3.625,12.95 -3.625,11.5 ; 1.175,-12.95 2.825,-12.95 2.825,-12.4 3.575,-12.4 3.575,-11.25 ; 1.175,12.95 2.825,12.95 2.825,12.4 3.575,12.4 3.575,11.25 ; -3.625,-11.5 -3.175,-11.25 -3.175,11.275 -3.625,11.5 ; -3.625,-11.5 -3.625,11.5
Top Solder:
  rectangle: 2.475,10.825 3.875,11.175
  rectangle: 2.475,10.325 3.875,10.675
  rectangle: 2.475,9.825 3.875,10.175
  rectangle: 2.475,9.325 3.875,9.675
  rectangle: 2.475,8.825 3.875,9.175
  rectangle: 2.475,8.325 3.875,8.675
  rectangle: 2.475,7.825 3.875,8.175
  rectangle: 2.475,7.325 3.875,7.675
  rectangle: 2.475,6.825 3.875,7.175
  rectangle: 2.475,6.325 3.875,6.675
  rectangle: 2.475,5.825 3.875,6.175
  rectangle: 2.475,5.325 3.875,5.675
  rectangle: 2.475,4.825 3.875,5.175
  rectangle: 2.475,4.325 3.875,4.675
  rectangle: 2.475,3.825 3.875,4.175
  rectangle: 2.475,3.325 3.875,3.675
  rectangle: 2.475,2.825 3.875,3.175
  rectangle: 2.475,2.325 3.875,2.675
  rectangle: 2.475,1.825 3.875,2.175
  rectangle: 2.475,1.325 3.875,1.675
  rectangle: 2.475,0.825 3.875,1.175
  rectangle: 2.475,0.325 3.875,0.675
  rectangle: 2.475,-0.175 3.875,0.175
  rectangle: 2.475,-0.675 3.875,-0.325
  rectangle: 2.475,-1.175 3.875,-0.825
  rectangle: 2.475,-1.675 3.875,-1.325
  rectangle: 2.475,-2.175 3.875,-1.825
  rectangle: 2.475,-2.675 3.875,-2.325
  rectangle: 2.475,-3.175 3.875,-2.825
  rectangle: 2.475,-3.675 3.875,-3.325
  rectangle: 2.475,-4.175 3.875,-3.825
  rectangle: 2.475,-4.675 3.875,-4.325
  rectangle: 2.475,-5.175 3.875,-4.825
  rectangle: 2.475,-5.675 3.875,-5.325
  rectangle: 2.475,-6.175 3.875,-5.825
  rectangle: 2.475,-6.675 3.875,-6.325
  rectangle: 2.475,-7.175 3.875,-6.825
  rectangle: 2.475,-7.675 3.875,-7.325
  rectangle: 2.475,-8.175 3.875,-7.825
  rectangle: 2.475,-8.675 3.875,-8.325
  rectangle: 2.475,-9.175 3.875,-8.825
  rectangle: 2.475,-9.675 3.875,-9.325
  rectangle: 2.475,-10.175 3.875,-9.825
  rectangle: 2.475,-10.675 3.875,-10.325
  rectangle: 2.475,-11.175 3.875,-10.825
Mechanical 16:
  lines w0.102: -1.325,-12.95 -0.525,-12.95 -0.525,-13.25 0.375,-13.25 0.375,-12.95 1.175,-12.95 ; -1.325,12.95 -0.525,12.95 -0.525,13.25 0.375,13.25 0.375,12.95 1.175,12.95 ; 3.575,-11.25 3.575,11.25
Via Holes:
  rectangle: 0.225,-11.25 2.475,11.25
Mechanical 27:
  rectangle: 3.875,-12.25 4.425,12.25

## XF2H-5015-1LW [mil]
pads (52):
  rect 51.18x9.84 smd: 1(125,482.28) 2(125,462.6) 3(125,442.91) 4(125,423.23) 5(125,403.54) 6(125,383.86) 7(125,364.17) 8(125,344.49) 9(125,324.8) 10(125,305.12) 11(125,285.43) 12(125,265.75) 13(125,246.06) 14(125,226.38) 15(125,206.69) 16(125,187.01) 17(125,167.32) 18(125,147.64) 19(125,127.95) 20(125,108.27) 21(125,88.58) 22(125,68.9) 23(125,49.21) 24(125,29.53) 25(125,9.84) 26(125,-9.84) 27(125,-29.53) 28(125,-49.21) 29(125,-68.9) 30(125,-88.58) 31(125,-108.27) 32(125,-127.95) 33(125,-147.64) 34(125,-167.32) 35(125,-187.01) 36(125,-206.69) 37(125,-226.38) 38(125,-246.06) 39(125,-265.75) 40(125,-285.43) 41(125,-305.12) 42(125,-324.8) 43(125,-344.49) 44(125,-364.17) 45(125,-383.86) 46(125,-403.54) 47(125,-423.23) 48(125,-442.91) 49(125,-462.6) 50(125,-482.28)
  rect 86.61x31.5 smd: M1(-2.95,576.77) M2(-2.95,-576.77)
Top Overlay:
  lines w4: -52.17,-559.06 -142.72,-559.06 -142.72,-501.97 ; -52.17,559.06 -142.72,559.06 -142.72,501.97 ; 46.26,-559.06 111.22,-559.06 111.22,-537.4 140.75,-537.4 140.75,-492.13 ; 46.26,559.06 111.22,559.06 111.22,537.4 140.75,537.4 140.75,492.13 ; -142.72,-501.97 -125,-492.13 -125,493.11 -142.72,501.97 ; -142.72,-501.97 -142.72,501.97
Top Solder:
  rectangle: 97.44,475.39 152.56,489.17
  rectangle: 97.44,455.71 152.56,469.49
  rectangle: 97.44,436.02 152.56,449.8
  rectangle: 97.44,416.34 152.56,430.12
  rectangle: 97.44,396.65 152.56,410.43
  rectangle: 97.44,376.97 152.56,390.75
  rectangle: 97.44,357.28 152.56,371.06
  rectangle: 97.44,337.6 152.56,351.38
  rectangle: 97.44,317.91 152.56,331.69
  rectangle: 97.44,298.23 152.56,312.01
  rectangle: 97.44,278.54 152.56,292.32
  rectangle: 97.44,258.86 152.56,272.64
  rectangle: 97.44,239.17 152.56,252.95
  rectangle: 97.44,219.49 152.56,233.27
  rectangle: 97.44,199.8 152.56,213.58
  rectangle: 97.44,180.12 152.56,193.9
  rectangle: 97.44,160.43 152.56,174.21
  rectangle: 97.44,140.75 152.56,154.53
  rectangle: 97.44,121.06 152.56,134.84
  rectangle: 97.44,101.38 152.56,115.16
  rectangle: 97.44,81.69 152.56,95.47
  rectangle: 97.44,62.01 152.56,75.79
  rectangle: 97.44,42.32 152.56,56.1
  rectangle: 97.44,22.64 152.56,36.42
  rectangle: 97.44,2.95 152.56,16.73
  rectangle: 97.44,-16.73 152.56,-2.95
  rectangle: 97.44,-36.42 152.56,-22.64
  rectangle: 97.44,-56.1 152.56,-42.32
  rectangle: 97.44,-75.79 152.56,-62.01
  rectangle: 97.44,-95.47 152.56,-81.69
  rectangle: 97.44,-115.16 152.56,-101.38
  rectangle: 97.44,-134.84 152.56,-121.06
  rectangle: 97.44,-154.53 152.56,-140.75
  rectangle: 97.44,-174.21 152.56,-160.43
  rectangle: 97.44,-193.9 152.56,-180.12
  rectangle: 97.44,-213.58 152.56,-199.8
  rectangle: 97.44,-233.27 152.56,-219.49
  rectangle: 97.44,-252.95 152.56,-239.17
  rectangle: 97.44,-272.64 152.56,-258.86
  rectangle: 97.44,-292.32 152.56,-278.54
  rectangle: 97.44,-312.01 152.56,-298.23
  rectangle: 97.44,-331.69 152.56,-317.91
  rectangle: 97.44,-351.38 152.56,-337.6
  rectangle: 97.44,-371.06 152.56,-357.28
  rectangle: 97.44,-390.75 152.56,-376.97
  rectangle: 97.44,-410.43 152.56,-396.65
  rectangle: 97.44,-430.12 152.56,-416.34
  rectangle: 97.44,-449.8 152.56,-436.02
  rectangle: 97.44,-469.49 152.56,-455.71
  rectangle: 97.44,-489.17 152.56,-475.39
Mechanical 16:
  lines w4: -52.17,-559.06 -20.67,-559.06 -20.67,-570.87 14.76,-570.87 14.76,-559.06 46.26,-559.06 ; -52.17,559.06 -20.67,559.06 -20.67,570.87 14.76,570.87 14.76,559.06 46.26,559.06 ; 140.75,-492.13 140.75,492.13
Via Holes:
  rectangle: 8.86,-492.13 97.44,492.13
Mechanical 27:
  rectangle: 152.56,-541.34 174.21,541.34

## XF2H-5315-1LW [mm]
pads (55):
  rect 1.3x0.25 smd: 1(3.175,13) 2(3.175,12.5) 3(3.175,12) 4(3.175,11.5) 5(3.175,11) 6(3.175,10.5) 7(3.175,10) 8(3.175,9.5) 9(3.175,9) 10(3.175,8.5) 11(3.175,8) 12(3.175,7.5) 13(3.175,7) 14(3.175,6.5) 15(3.175,6) 16(3.175,5.5) 17(3.175,5) 18(3.175,4.5) 19(3.175,4) 20(3.175,3.5) 21(3.175,3) 22(3.175,2.5) 23(3.175,2) 24(3.175,1.5) 25(3.175,1) 26(3.175,0.5) 27(3.175,0) 28(3.175,-0.5) 29(3.175,-1) 30(3.175,-1.5) 31(3.175,-2) 32(3.175,-2.5) 33(3.175,-3) 34(3.175,-3.5) 35(3.175,-4) 36(3.175,-4.5) 37(3.175,-5) 38(3.175,-5.5) 39(3.175,-6) 40(3.175,-6.5) 41(3.175,-7) 42(3.175,-7.5) 43(3.175,-8) 44(3.175,-8.5) 45(3.175,-9) 46(3.175,-9.5) 47(3.175,-10) 48(3.175,-10.5) 49(3.175,-11) 50(3.175,-11.5) 51(3.175,-12) 52(3.175,-12.5) 53(3.175,-13)
  rect 2.2x0.8 smd: M1(-0.075,15.4) M2(-0.075,-15.4)
Top Overlay:
  lines w0.102: -1.325,-14.95 -3.625,-14.95 -3.625,-13.5 ; -1.325,14.95 -3.625,14.95 -3.625,13.5 ; 1.175,-14.95 2.825,-14.95 2.825,-14.4 3.575,-14.4 3.575,-13.25 ; 1.175,14.95 2.825,14.95 2.825,14.4 3.575,14.4 3.575,13.25 ; -3.625,-13.5 -3.175,-13.25 -3.175,13.275 -3.625,13.5 ; -3.625,-13.5 -3.625,13.5
Top Solder:
  rectangle: 2.475,12.825 3.875,13.175
  rectangle: 2.475,12.325 3.875,12.675
  rectangle: 2.475,11.825 3.875,12.175
  rectangle: 2.475,11.325 3.875,11.675
  rectangle: 2.475,10.825 3.875,11.175
  rectangle: 2.475,10.325 3.875,10.675
  rectangle: 2.475,9.825 3.875,10.175
  rectangle: 2.475,9.325 3.875,9.675
  rectangle: 2.475,8.825 3.875,9.175
  rectangle: 2.475,8.325 3.875,8.675
  rectangle: 2.475,7.825 3.875,8.175
  rectangle: 2.475,7.325 3.875,7.675
  rectangle: 2.475,6.825 3.875,7.175
  rectangle: 2.475,6.325 3.875,6.675
  rectangle: 2.475,5.825 3.875,6.175
  rectangle: 2.475,5.325 3.875,5.675
  rectangle: 2.475,4.825 3.875,5.175
  rectangle: 2.475,4.325 3.875,4.675
  rectangle: 2.475,3.825 3.875,4.175
  rectangle: 2.475,3.325 3.875,3.675
  rectangle: 2.475,2.825 3.875,3.175
  rectangle: 2.475,2.325 3.875,2.675
  rectangle: 2.475,1.825 3.875,2.175
  rectangle: 2.475,1.325 3.875,1.675
  rectangle: 2.475,0.825 3.875,1.175
  rectangle: 2.475,0.325 3.875,0.675
  rectangle: 2.475,-0.175 3.875,0.175
  rectangle: 2.475,-0.675 3.875,-0.325
  rectangle: 2.475,-1.175 3.875,-0.825
  rectangle: 2.475,-1.675 3.875,-1.325
  rectangle: 2.475,-2.175 3.875,-1.825
  rectangle: 2.475,-2.675 3.875,-2.325
  rectangle: 2.475,-3.175 3.875,-2.825
  rectangle: 2.475,-3.675 3.875,-3.325
  rectangle: 2.475,-4.175 3.875,-3.825
  rectangle: 2.475,-4.675 3.875,-4.325
  rectangle: 2.475,-5.175 3.875,-4.825
  rectangle: 2.475,-5.675 3.875,-5.325
  rectangle: 2.475,-6.175 3.875,-5.825
  rectangle: 2.475,-6.675 3.875,-6.325
  rectangle: 2.475,-7.175 3.875,-6.825
  rectangle: 2.475,-7.675 3.875,-7.325
  rectangle: 2.475,-8.175 3.875,-7.825
  rectangle: 2.475,-8.675 3.875,-8.325
  rectangle: 2.475,-9.175 3.875,-8.825
  rectangle: 2.475,-9.675 3.875,-9.325
  rectangle: 2.475,-10.175 3.875,-9.825
  rectangle: 2.475,-10.675 3.875,-10.325
  rectangle: 2.475,-11.175 3.875,-10.825
  rectangle: 2.475,-11.675 3.875,-11.325
  rectangle: 2.475,-12.175 3.875,-11.825
  rectangle: 2.475,-12.675 3.875,-12.325
  rectangle: 2.475,-13.175 3.875,-12.825
Mechanical 16:
  lines w0.102: -1.325,-14.95 -0.525,-14.95 -0.525,-15.25 0.375,-15.25 0.375,-14.95 1.175,-14.95 ; -1.325,14.95 -0.525,14.95 -0.525,15.25 0.375,15.25 0.375,14.95 1.175,14.95 ; 3.575,-13.25 3.575,13.25
Via Holes:
  rectangle: 0.225,-13.25 2.475,13.25
Mechanical 27:
  rectangle: 3.875,-14.45 4.425,14.45

## XF2J-0624-11 [mm]
pads (8):
  rect 1.6x0.5 smd: 1(1.2,1.25) 2(-1.2,0.75) 3(1.2,0.25) 4(-1.2,-0.25) 5(1.2,-0.75) 6(-1.2,-1.25)
  rect 2.9x1.4 smd: M1(0,2.95) M2(0,-2.95)
Top Overlay:
  lines w0.102: -1.65,-3.4 -1.65,-2.1 ; -1.65,1.6 -1.65,3.4 ; -1.625,1.75 -1.15,1.55 ; 1.65,-3.4 1.65,-1.6 ; 1.65,2.1 1.65,3.4
Mechanical 16:
  lines w0.102: -1.625,-1.75 -1.15,-1.55 -1.15,1.55 -1.625,1.75 ; 0.975,-3.7 1.35,-3.7 ccw(c1.35,-3.4) 1.65,-3.4 1.65,3.4 ccw(c1.35,3.4) 1.35,3.7 1,3.7 ; 1.15,1.05 1,1.05 1,1.45 1.15,1.45 ; -1.65,-3.4 -1.65,3.4 cw(c-1.35,3.4) -1.35,3.7 0.9,3.7 cw(c0.9,3.4) 1.2,3.4 1.2,-3.4 cw(c0.9,-3.4) 0.9,-3.7 -1.35,-3.7 cw(c-1.35,-3.4) -1.65,-3.4

## XF2J-0624-12 [mm]
pads (8):
  rect 1.6x0.5 smd: 1(-1.2,1.25) 2(1.2,0.75) 3(-1.2,0.25) 4(1.2,-0.25) 5(-1.2,-0.75) 6(1.2,-1.25)
  rect 2.9x1.4 smd: M1(0,2.95) M2(0,-2.95)
Top Overlay:
  lines w0.102: -1.65,-3.4 -1.65,-2.1 ; -1.65,1.6 -1.65,3.4 ; -1.625,1.75 -1.15,1.55 ; 1.65,-3.4 1.65,-1.6 ; 1.65,2.1 1.65,3.4
Mechanical 16:
  lines w0.102: -1.625,-1.75 -1.15,-1.55 -1.15,1.55 -1.625,1.75 ; 0.975,-3.7 1.35,-3.7 ccw(c1.35,-3.4) 1.65,-3.4 1.65,3.4 ccw(c1.35,3.4) 1.35,3.7 1,3.7 ; 1.15,1.05 1,1.05 1,1.45 1.15,1.45 ; -1.65,-3.4 -1.65,3.4 cw(c-1.35,3.4) -1.35,3.7 0.9,3.7 cw(c0.9,3.4) 1.2,3.4 1.2,-3.4 cw(c0.9,-3.4) 0.9,-3.7 -1.35,-3.7 cw(c-1.35,-3.4) -1.65,-3.4

## XF2J-0824-11 [mm]
pads (10):
  rect 1.6x0.5 smd: 1(1.2,1.75) 2(-1.2,1.25) 3(1.2,0.75) 4(-1.2,0.25) 5(1.2,-0.25) 6(-1.2,-0.75) 7(1.2,-1.25) 8(-1.2,-1.75)
  rect 2.9x1.4 smd: M1(0,3.45) M2(0,-3.45)
Top Overlay:
  lines w0.102: -1.65,-3.9 -1.65,-2.6 ; -1.65,2.1 -1.65,3.9 ; -1.625,2.25 -1.15,2.05 ; 1.65,-3.9 1.65,-2.1 ; 1.65,2.6 1.65,3.9
Mechanical 16:
  lines w0.102: -1.625,-2.25 -1.15,-2.05 -1.15,2.05 -1.625,2.25 ; 0.975,-4.2 1.35,-4.2 ccw(c1.35,-3.9) 1.65,-3.9 1.65,3.9 ccw(c1.35,3.9) 1.35,4.2 1,4.2 ; 1.15,1.55 1,1.55 1,1.95 1.15,1.95 ; -1.65,-3.9 -1.65,3.9 cw(c-1.35,3.9) -1.35,4.2 0.9,4.2 cw(c0.9,3.9) 1.2,3.9 1.2,-3.9 cw(c0.9,-3.9) 0.9,-4.2 -1.35,-4.2 cw(c-1.35,-3.9) -1.65,-3.9